# EAGLE library part AP3602 (library pimoroni-ics)
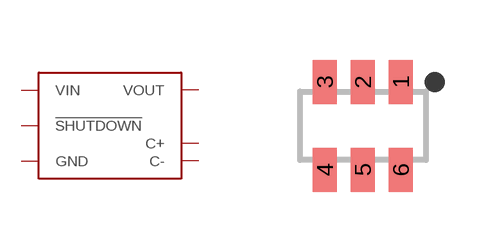
[diagram p166: symbol with the pads of SOT-23-6; footprint SOT-23-6]

Designator prefix -

## AP3602SOT26  [SOT-23-6]
1  VOUT
2  GND
3  !SHUTDOWN
4  C-
5  VIN
6  C+

## Footprint SOT-23-6 (pad centres in mm)
smd 0.6 x 1.1: 1 0.95,1.1; 2 0,1.1; 3 -0.95,1.1; 4 -0.95,-1.1; 5 0,-1.1; 6 0.95,-1.1